# Altium schematic symbol library Schlib1.SchLib: 2 symbols
Pins are listed as number, name and electrical type; pins without a type are passive.

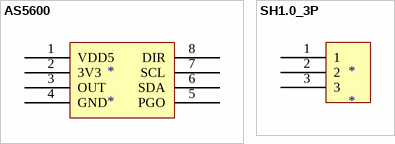
[diagram p0: symbols AS5600 to SH1.0_3P]

## AS5600
designator *
footprint SOP8
pins: 1 VDD5, 2 3V3, 3 OUT, 4 GND, 5 PGO, 6 SDA, 7 SCL, 8 DIR

## SH1.0_3P
designator *
pins: 1, 2, 3